# Altium footprint library AP22802AW5-7.PcbLib: 3 footprints
Each footprint in its own frame and in the unit in brackets; x right, y up, seen from the top. Pads: shape width x height; smd on the part's side, far side on the other; paste and mask are expansions set on the pad; w line width, h text height; cw(c..) or ccw(c..) is an arc to the next point about the centre after c.
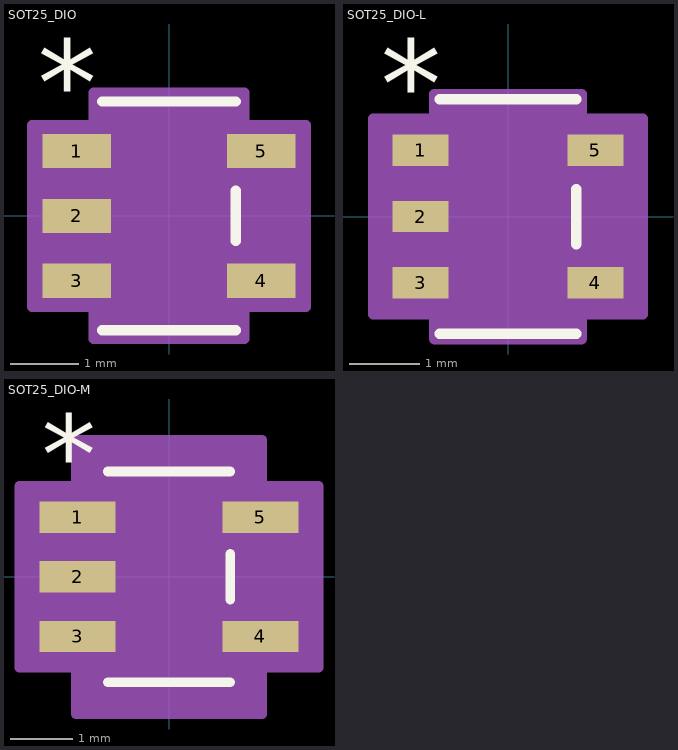
[diagram p0: the footprints below, top view; thin cyan lines are the x and y axes]

## SOT25_DIO [mm]
pads (5):
  rect 1.006x0.5 smd paste+0 mask+0: 1(-1.353,0.95) 2(-1.353,0) 3(-1.353,-0.95) 4(1.353,-0.95) 5(1.353,0.95)
Top Overlay:
  lines w0.152: -0.977,-1.677 0.977,-1.677 ; -0.977,1.677 0.977,1.677 ; 0.977,-0.367 0.977,0.367
  text "*" at -1.924,1.323 h1.27
Mechanical 13:
  lines w0: -0.305,1.55 ccw(c0,1.55) 0.305,1.55
  lines w0.025: -1.5,-1.2 -1.5,-0.7 -0.85,-0.7 -0.85,-1.2 -1.5,-1.2 ; -1.5,-0.25 -1.5,0.25 -0.85,0.25 -0.85,-0.25 -1.5,-0.25 ; -1.5,0.7 -1.5,1.2 -0.85,1.2 -0.85,0.7 -1.5,0.7 ; -0.85,-1.55 0.85,-1.55 0.85,1.55 -0.85,1.55 -0.85,-1.55 ; 0.85,-1.2 0.85,-0.7 1.5,-0.7 1.5,-1.2 0.85,-1.2 ; 0.85,0.7 0.85,1.2 1.5,1.2 1.5,0.7 0.85,0.7
  text "*" at -0.914,0.231 h1.27
Mechanical 15:
  region: 1.104,-1.804 -1.104,-1.804 -1.104,-1.331 -2.008,-1.331 -2.008,1.331 -1.104,1.331 -1.104,1.804 1.104,1.804 1.104,1.331 2.008,1.331 2.008,-1.331 1.104,-1.331
  lines w0.152: -2.008,-1.331 -1.104,-1.331 -1.104,-1.804 1.104,-1.804 1.104,-1.331 2.008,-1.331 2.008,1.331 1.104,1.331 1.104,1.804 -1.104,1.804 -1.104,1.331 -2.008,1.331 -2.008,-1.331
3D body "SOT25_DIO.step": height 1.45, standoff 0, extent -1.5,-1.55 1.5,1.55

## SOT25_DIO-L [mm]
pads (5):
  rect 0.802x0.449 smd paste+0 mask+0: 1(-1.251,0.95) 2(-1.251,0) 3(-1.251,-0.95) 4(1.251,-0.95) 5(1.251,0.95)
Top Overlay:
  lines w0.152: -0.977,-1.677 0.977,-1.677 ; -0.977,1.677 0.977,1.677 ; 0.977,-0.393 0.977,0.393
  text "*" at -1.823,1.272 h1.27
Mechanical 13:
  lines w0: -0.305,1.55 ccw(c0,1.55) 0.305,1.55
  lines w0.025: -1.5,-1.2 -1.5,-0.7 -0.85,-0.7 -0.85,-1.2 -1.5,-1.2 ; -1.5,-0.25 -1.5,0.25 -0.85,0.25 -0.85,-0.25 -1.5,-0.25 ; -1.5,0.7 -1.5,1.2 -0.85,1.2 -0.85,0.7 -1.5,0.7 ; -0.85,-1.55 0.85,-1.55 0.85,1.55 -0.85,1.55 -0.85,-1.55 ; 0.85,-1.2 0.85,-0.7 1.5,-0.7 1.5,-1.2 0.85,-1.2 ; 0.85,0.7 0.85,1.2 1.5,1.2 1.5,0.7 0.85,0.7
  text "*" at -0.914,0.18 h1.27
Mechanical 15:
  region: 1.053,-1.753 -1.053,-1.753 -1.053,-1.399 -1.928,-1.399 -1.928,1.399 -1.053,1.399 -1.053,1.753 1.053,1.753 1.053,1.399 1.928,1.399 1.928,-1.399 1.053,-1.399
  lines w0.152: -1.928,-1.399 -1.053,-1.399 -1.053,-1.753 1.053,-1.753 1.053,-1.399 1.928,-1.399 1.928,1.399 1.053,1.399 1.053,1.753 -1.053,1.753 -1.053,1.399 -1.928,1.399 -1.928,-1.399
3D body "SOT25_DIO.step": height 1.45, standoff 0, extent -1.5,-1.55 1.5,1.55

## SOT25_DIO-M [mm]
pads (5):
  rect 1.209x0.5 smd paste+0 mask+0: 1(-1.454,0.95) 2(-1.454,0) 3(-1.454,-0.95) 4(1.454,-0.95) 5(1.454,0.95)
Top Overlay:
  lines w0.152: -0.977,-1.677 0.977,-1.677 ; -0.977,1.677 0.977,1.677 ; 0.977,-0.367 0.977,0.367
  text "*" at -2.026,1.323 h1.27
Mechanical 13:
  lines w0: -0.305,1.55 ccw(c0,1.55) 0.305,1.55
  lines w0.025: -1.5,-1.2 -1.5,-0.7 -0.85,-0.7 -0.85,-1.2 -1.5,-1.2 ; -1.5,-0.25 -1.5,0.25 -0.85,0.25 -0.85,-0.25 -1.5,-0.25 ; -1.5,0.7 -1.5,1.2 -0.85,1.2 -0.85,0.7 -1.5,0.7 ; -0.85,-1.55 0.85,-1.55 0.85,1.55 -0.85,1.55 -0.85,-1.55 ; 0.85,-1.2 0.85,-0.7 1.5,-0.7 1.5,-1.2 0.85,-1.2 ; 0.85,0.7 0.85,1.2 1.5,1.2 1.5,0.7 0.85,0.7
  text "*" at -0.914,0.231 h1.27
Mechanical 15:
  region: 1.485,-2.185 -1.485,-2.185 -1.485,-1.45 -2.385,-1.45 -2.385,1.45 -1.485,1.45 -1.485,2.185 1.485,2.185 1.485,1.45 2.385,1.45 2.385,-1.45 1.485,-1.45
  lines w0.152: -2.385,-1.45 -1.485,-1.45 -1.485,-2.185 1.485,-2.185 1.485,-1.45 2.385,-1.45 2.385,1.45 1.485,1.45 1.485,2.185 -1.485,2.185 -1.485,1.45 -2.385,1.45 -2.385,-1.45
3D body "SOT25_DIO.step": height 1.45, standoff 0, extent -1.5,-1.55 1.5,1.55